# Altium footprint library Battery_Charger_BQ24650.PcbLib: 25 footprints (part 2 of 2)
Each footprint in its own frame and in the unit in brackets; x right, y up, seen from the top. Pads: shape width x height; smd on the part's side, far side on the other; paste and mask are expansions set on the pad; w line width, h text height; cw(c..) or ccw(c..) is an arc to the next point about the centre after c.
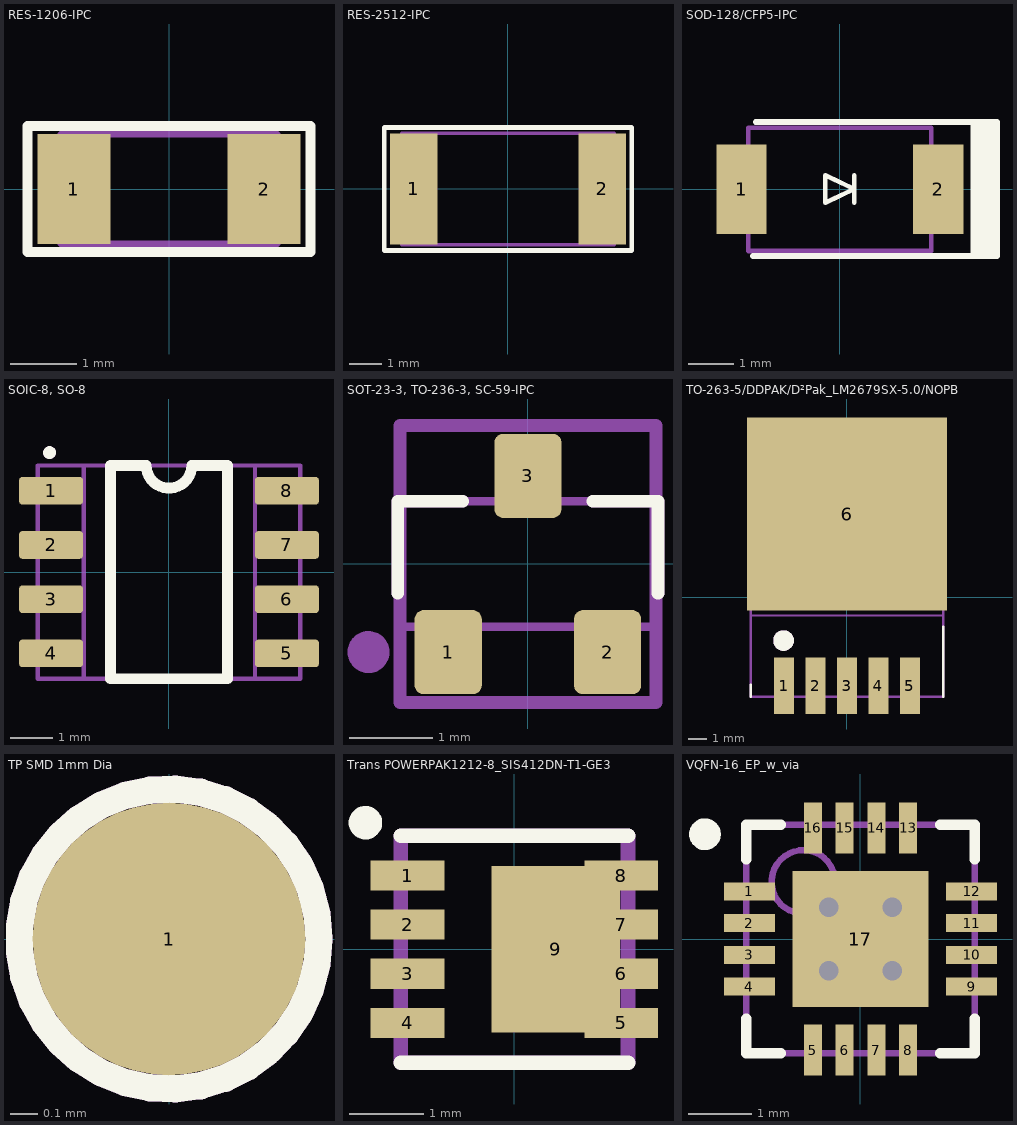
[diagram p1: the footprints below, top view; thin cyan lines are the x and y axes]

## RES-1206-IPC [mm] "Chip Resistor, 2-Leads, Body 3.13x1.55mm, IPC Medium Density"
height 0.7
pads (2):
  rect 1.1x1.65 smd: 1(-1.43,0) 2(1.43,0)
Top Overlay:
  lines w0.15: -2.125,-0.95 -2.125,0.95 2.125,0.95 2.125,-0.95 -2.125,-0.95
Top Assembly:
  lines w0.1: -1.625,-0.825 -1.625,0.825 1.625,0.825 1.625,-0.825 -1.625,-0.825
3D body "RES-1206-IPC.step": height 0.7, standoff 0, extent -1.625,-0.825 1.625,0.825

## RES-2512-IPC [mm] "Chip Resistor, 2-Leads, Body 6.30x3.20mm, IPC Medium Density"
height 0.7
pads (2):
  rect 1.45x3.4 smd: 1(-2.875,0) 2(2.875,0)
Top Overlay:
  lines w0.15: -3.775,-1.875 -3.775,1.875 3.775,1.875 3.775,-1.875 -3.775,-1.875
Top 3D Body:
  lines w0.1: -3.25,-1.7 -3.25,1.7 3.25,1.7 3.25,-1.7 -3.25,-1.7
Top Assembly:
  lines w0.1: -3.25,-1.7 -3.25,1.7 3.25,1.7 3.25,-1.7 -3.25,-1.7
  text "'.Designator'" at -2.05,-0.477 h1.05
3D body "RES-2512-IPC.step": height 0.7, standoff 0, extent -3.25,-1.7 3.25,1.7

## SOD-128/CFP5-IPC [mm] "SODFL, 2-Leads, Body 2.50x4.70mm, IPC Medium Density"
height 1.1
pads (2):
  rect 1.1x1.95 smd: 1(-2.15,0) 2(2.15,0)
Top Overlay:
  rectangle: 2.862,-1.45 3.437,1.475
  lines w0.1: 0.313,-0.293 0.313,0.307 ; -0.32,-0.293 0.313,0.007 -0.32,0.307 -0.32,-0.293
  lines w0.127: -1.898,-1.461 3.438,-1.461 3.438,1.473 -1.84,1.473
Top 3D Body:
  lines w0.1: -2,-1.35 2,-1.35 2,1.35 -2,1.35 -2,-1.35
Top Assembly:
  text "'.Designator'" at -1.025,-0.1 h0.64
3D body "SDO_CFP5_SOD128_NEX.step": height 1.1, standoff 0, extent -2.502,-1.346 2.502,1.346

## SOIC-8, SO-8 [mm] "8-SOIC (0.154\", 3.90mm Width) / SOIC, 8-Leads, Body 4.9x3.9mm, Pitch 1.27mm, IPC Medium Density"
height 1.75
pads (8):
  rrect25% 1.5x0.65 smd: 1(-2.765,1.905) 2(-2.765,0.635) 3(-2.765,-0.635) 4(-2.765,-1.905) 5(2.765,-1.905) 6(2.765,-0.635) 7(2.765,0.635) 8(2.765,1.905)
Top Overlay:
  circle w0.2: c-2.8,2.8 r0.05
  lines w0.254: -1.372,-2.5 -1.372,2.5 -0.533,2.5 ccw(c0,2.5) 0.533,2.5 1.372,2.5 1.372,-2.5 -1.372,-2.5
Top 3D Body:
  lines w0.1: -3.073,-2.5 3.073,-2.5 3.073,2.5 -3.073,2.5 -3.073,-2.5
Top Assembly:
  circle w0.2: c-2.8,2.8 r0.05
  lines w0.1: -2,-2.5 2.015,-2.5 2.015,2.5 -2,2.5 -2,-2.5
  text "'.Designator'" at -0.762,-0.279 h0.89
3D body "User Library-SOIC8_JEDEC_MS-012AA.STEP": height 1.75, standoff -0.01, extent -3.1,-2.5 3.1,2.5

## SOT-23-3, TO-236-3, SC-59-IPC [mm] "SOT23, 3-Leads, Body 2.90x2.40mm, Pitch 0.95mm, IPC Medium Density"
height 1.15
pads (3):
  rrect25% 0.8x1 smd: 1(-0.95,-1.05) 2(0.95,-1.05) 3(0,1.05)
Top Overlay:
  lines w0.15: -1.55,-0.35 -1.55,0.75 -0.775,0.75 ; 0.775,0.75 1.55,0.75 1.55,-0.35
Top 3D Body:
  lines w0.1: -1.55,-0.75 1.55,-0.75 1.55,0.75 -1.55,0.75 -1.55,-0.75
Top Assembly:
  circle w0.25: c-1.9,-1.05 r0.125
  lines w0.15: -1.55,-0.35 -1.55,0.75 -0.775,0.75 ; 0.775,0.75 1.55,0.75 1.55,-0.35
  lines w0.152: -1.525,-1.65 1.525,-1.65 1.525,1.65 -1.525,1.65 -1.525,-1.65
  text "'.Designator'" at -0.549,-0.514 h1.02
3D body "SOT-23-3-IPC.step": height 1.15, standoff 0, extent -1.55,-1.3 1.55,1.3

## TO-263-5/DDPAK/D²Pak_LM2679SX-5.0/NOPB [mm]
pads (6):
  rect 1.07x3.05 smd: 1(-3.4,-4.792) 2(-1.7,-4.792) 3(0,-4.792) 4(1.7,-4.792) 5(3.4,-4.792)
  rect 10.8x10.41 smd paste-6: 6(0,4.483)
Top Overlay:
  circle w0.6: c-3.425,-2.35 r0.254
  lines w0.127: -5.205,-5.39 -5.205,-4.725 ; 5.205,-5.39 5.205,-1.59
Top Paste:
  region: 0.69,3.887 -0.69,3.887 -0.69,5.187 0.69,5.187
  region: 2.85,3.887 1.47,3.887 1.47,5.187 2.85,5.187
  region: 5.01,3.887 3.63,3.887 3.63,5.187 5.01,5.187
  region: -1.47,3.887 -2.85,3.887 -2.85,5.187 -1.47,5.187
  region: -3.63,3.887 -5.01,3.887 -5.01,5.187 -3.63,5.187
  region: 0.69,5.967 -0.69,5.967 -0.69,7.267 0.69,7.267
  region: 2.85,5.967 1.47,5.967 1.47,7.267 2.85,7.267
  region: 5.01,5.967 3.63,5.967 3.63,7.267 5.01,7.267
  region: -1.47,5.967 -2.85,5.967 -2.85,7.267 -1.47,7.267
  region: -3.63,5.967 -5.01,5.967 -5.01,7.267 -3.63,7.267
  region: 0.69,8.047 -0.69,8.047 -0.69,9.347 0.69,9.347
  region: 2.85,8.047 1.47,8.047 1.47,9.347 2.85,9.347
  region: 5.01,8.047 3.63,8.047 3.63,9.347 5.01,9.347
  region: -1.47,8.047 -2.85,8.047 -2.85,9.347 -1.47,9.347
  region: -3.63,8.047 -5.01,8.047 -5.01,9.347 -3.63,9.347
  region: 0.69,1.807 -0.69,1.807 -0.69,3.107 0.69,3.107
  region: 2.85,1.807 1.47,1.807 1.47,3.107 2.85,3.107
  region: 5.01,1.807 3.63,1.807 3.63,3.107 5.01,3.107
  region: -1.47,1.807 -2.85,1.807 -2.85,3.107 -1.47,3.107
  region: -3.63,1.807 -5.01,1.807 -5.01,3.107 -3.63,3.107
  region: 0.69,-0.273 -0.69,-0.273 -0.69,1.027 0.69,1.027
  region: 2.85,-0.273 1.47,-0.273 1.47,1.027 2.85,1.027
  region: 5.01,-0.273 3.63,-0.273 3.63,1.027 5.01,1.027
  region: -1.47,-0.273 -2.85,-0.273 -2.85,1.027 -1.47,1.027
  region: -3.63,-0.273 -5.01,-0.273 -5.01,1.027 -3.63,1.027
Top 3D Body:
  lines w0.127: -5.205,-5.39 5.205,-5.39 5.205,8.91 -5.205,8.91 -5.205,-5.39
Top Assembly:
  circle w0.6: c-3.425,-2.35 r0.254
  lines w0.127: -5.205,-0.995 5.205,-0.995 5.205,7.895 -5.205,7.895 -5.205,-0.995
  text "'.Designator'" at -2.105,3.296 h1.02
3D body "KTT0005B.stp": height 4.57, standoff -0.15, extent -5.08,-5.398 5.08,8.903

## TP SMD 1mm Dia [mm]
pads (1):
  round 1 smd paste-0.7: 1(0,0)
Top Overlay:
  circle w0.1: c0,0 r0.55
Top Assembly:
  circle w0.1: c0,0 r0.55

## Trans POWERPAK1212-8_SIS412DN-T1-GE3 [mm] "PowerPAK® 1212-8"
pads (9):
  rect 0.99x0.405 smd: 1(-1.435,0.99) 2(-1.435,0.33) 3(-1.435,-0.33) 4(-1.435,-0.99) 5(1.435,-0.99) 6(1.435,-0.33) 7(1.435,0.33) 8(1.435,0.99)
  rect 1.725x2.235 smd: 9(0.557,0)
Top Overlay:
  circle w0.25: c-2,1.7 r0.1
  lines w0.2: -1.525,-1.525 1.525,-1.525 ; -1.525,1.525 1.525,1.525
Top 3D Body:
  lines w0.2: -1.525,-1.525 -1.525,1.525 1.525,1.525 1.525,-1.525 -1.525,-1.525
3D body "SIS412DN-T1-GE3.STEP": height 1.12, standoff 0, extent -1.651,-1.651 1.651,1.651

## VQFN-16_EP_w_via [mm] "VQFN-16 (3.5x3.5) / VQFN, 16-Leads, Body 3.50x3.50mm, Pitch 0.50mm, Thermal Pad 2.14x2.14mm, IPC High Density"
height 1
pads (17):
  rect 0.8x0.28 smd: 1(-1.75,0.75) 2(-1.75,0.25) 3(-1.75,-0.25) 4(-1.75,-0.75) 9(1.75,-0.75) 10(1.75,-0.25) 11(1.75,0.25) 12(1.75,0.75)
  rect 0.28x0.8 smd: 5(-0.75,-1.75) 6(-0.25,-1.75) 7(0.25,-1.75) 8(0.75,-1.75) 13(0.75,1.75) 14(0.25,1.75) 15(-0.25,1.75) 16(-0.75,1.75)
  rect 2.14x2.14 smd: 17(0,0)
via -0.5,0.5 diameter 0.3 hole 0.3
via 0.5,0.5 diameter 0.3 hole 0.3
via -0.5,-0.5 diameter 0.3 hole 0.3
via 0.5,-0.5 diameter 0.3 hole 0.3
Top Overlay:
  circle w0.25: c-2.45,1.65 r0.125
  lines w0.16: -1.8,-1.255 -1.8,-1.8 -1.255,-1.8 ; -1.8,1.255 -1.8,1.8 -1.255,1.8 ; 1.255,-1.8 1.8,-1.8 1.8,-1.255 ; 1.255,1.8 1.8,1.8 1.8,1.255
Top Assembly:
  circle w0.1: c-0.9,0.9 r0.5
  lines w0.1: -1.8,-1.8 -1.8,1.8 1.8,1.8 1.8,-1.8 -1.8,-1.8
3D body "16-VQFN (3.5x3.5)-IPC.step": height 1, standoff 0, extent -1.8,-1.8 1.8,1.8